# Altium schematic symbol library Howard.SchLib: 217 symbols (part 5 of 5)
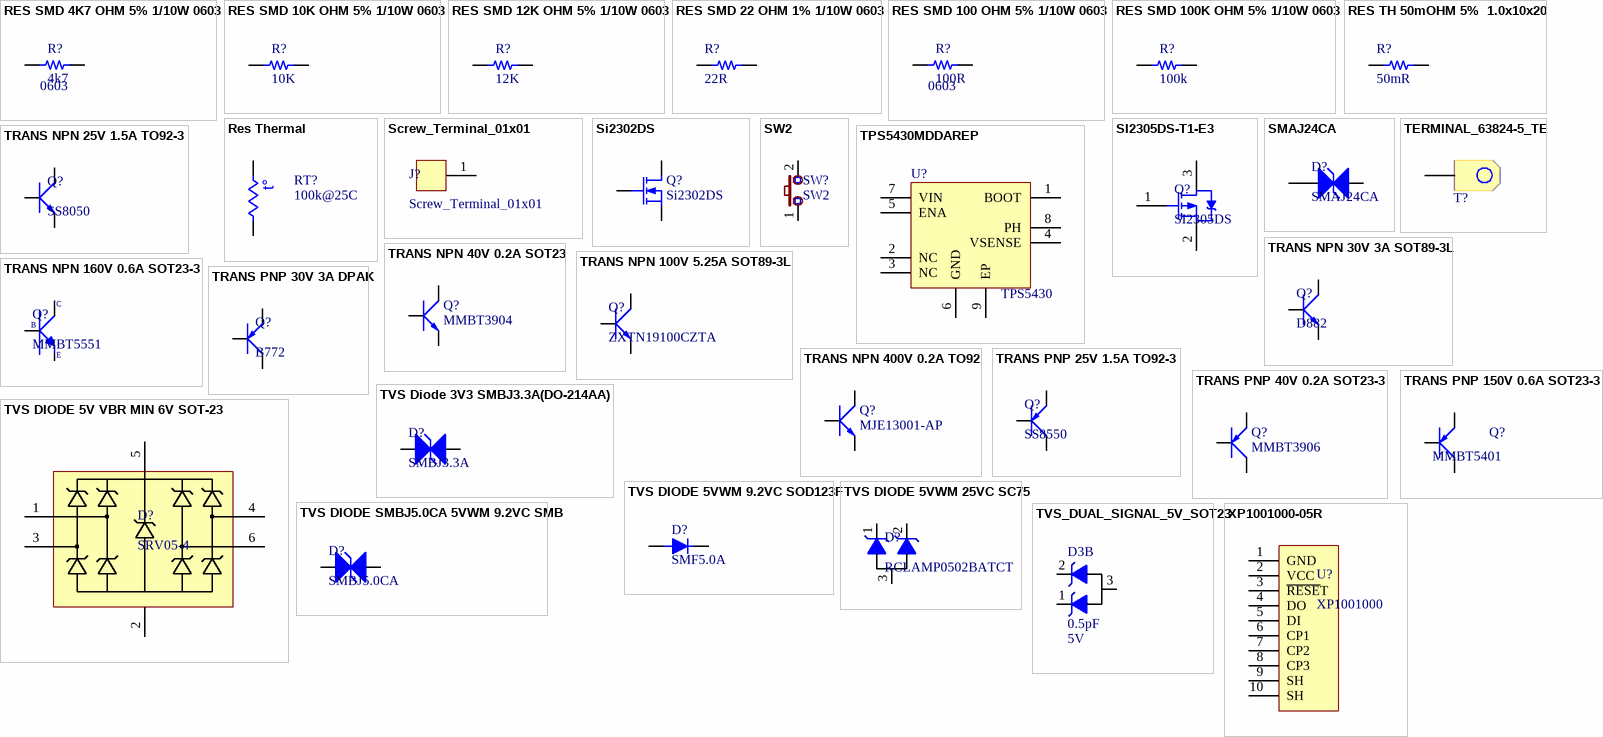
[diagram p11: symbols RES SMD 4K7 OHM 5% 1/10W 0603 to XP1001000-05R]

## TPS5430MDDAREP
designator U?, comment TPS5430
Conv DC-DC Single Step Down 5.5V to 36V 8-Pin HSOP EP; Manufacturer: Texas Instruments; Manufacturer Part Number: TPS5430MDDAREP; Number of Outputs: 1; Output Voltage: 1.22V; Output Current: 3A; Switching Frequency: 500kHz; Synchronous Rectifier: No; Quiescent Current: 3mA; Output Type: Adjustable; Efficiency: 95%; Min Output Voltage: 1.221V; Max Output Voltage: 32.04V; Output Configuration: Positive; Supplier 1: Digi-Key; Stock 1: 0; Pricing 1: 1=11.08, 10=10.007, 25=9.5416, 100=8.2849, 250=7.9126, 500=7.21442, 1000=6.5865 (USD); Mount: Surface Mount; Case/Package: HSOP; Number of Pins: 8; Weight: 0.00249oz; Min Operating Temperature: -55°C; Max Operating Temperature: 125°C; Packaging: Tape and Reel; Package Quantity: 2500; Max Input Voltage: 36V; Min Input Voltage: 5.5V; Max Output Current: 3A; Operating Supply Voltage: 36V; Series: SWIFT™; Radiation Hardening: No; Lead Free: Lead Free; RoHS Compliant: Yes; ComponentLink1URL: https://datasheet.ciiva.com/2035/tps5430-ep-2035616.pdf?src-supplier=Digi-Key; ComponentLink1Description: https://datasheet.ciiva.com/2035/tps5430-ep-2035616.pdf?src-supplier=Digi-Key; ComponentLink2URL: https://datasheet.ciiva.com/4880/slvs911-120920-4880897.pdf?src-supplier=Mouser; ComponentLink2Description: https://datasheet.ciiva.com/4880/slvs911-120920-4880897.pdf?src-supplier=Mouser; ComponentLink3URL: https://datasheet.ciiva.com/2035/tps5430-ep-2035617.pdf?src-supplier=Digi-Key; ComponentLink3Description: https://datasheet.ciiva.com/2035/tps5430-ep-2035617.pdf?src-supplier=Digi-Key; Supplier Part Number 1: 296-24266-6-ND
footprint SOP 8
pins: 1 BOOT, 2 NC, 3 NC, 4 VSENSE, 5 ENA, 6 GND, 7 VIN, 8 PH, 9 EP

## TRANS NPN 25V 1.5A TO92-3
designator Q?, comment SS8050
Transistor, Bjt, NPN, 25V V(br)ceo, 1.5A I(C), TO-92; Manufacturer: ON Semiconductor / Fairchild; Manufacturer Part Number: SS8050CTA; Frequency: 100MHz; Max Power Dissipation: 1W; hFE Min: 85; Collector Base Voltage (VCBO): 40V; Emitter Base Voltage (VEBO): 6V; Collector Emitter Saturation Voltage: 500mV; Number of Elements: 1; Element Configuration: Single; Max Frequency: 1MHz; Supplier 1: Digi-Key; Stock 1: 36979; Pricing 1: 1=0.49, 10=0.394, 100=0.2683, 500=0.20124, 1000=0.15092 (USD); Mount: Through Hole; Case/Package: TO-92-3; Number of Pins: 3; Weight: 0.24g; Contact Plating: Tin,Matte; Min Operating Temperature: -65°C; Max Operating Temperature: 150°C; Package Quantity: 1; Collector Emitter Voltage (VCEO): 25V; Packaging: Ammo Pack; Max Collector Current: 1.5A; Transition Frequency: 100MHz; Collector Emitter Breakdown Voltage: 25V; Max Breakdown Voltage: 25V; Polarity: NPN; Power Dissipation: 1W; Gain Bandwidth Product: 100MHz; Voltage Rating (DC): 25V; Current Rating: 1.5A; Series: -; Collector-emitter Voltage-Max: 500mV; Length: 4.58mm; Width: 3.86mm; Height: 4.58mm; Radiation Hardening: No; Reach SVHC Compliant: Yes; Lead Free: Lead Free; ComponentLink1URL: https://datasheet.ciiva.com/14806/ss8050-14806891.pdf?src-supplier=Arrow+Electronics; ComponentLink1Description: https://datasheet.ciiva.com/14806/ss8050-14806891.pdf?src-supplier=Arrow+Electronics; ComponentLink2URL: https://datasheet.ciiva.com/46415/1869977-46415606.pdf?src-supplier=Element14; ComponentLink2Description: https://datasheet.ciiva.com/46415/1869977-46415606.pdf?src-supplier=Element14; ComponentLink3URL: https://datasheet.ciiva.com/4721/ss8050-117753-4721260.pdf?src-supplier=Mouser; ComponentLink3Description: https://datasheet.ciiva.com/4721/ss8050-117753-4721260.pdf?src-supplier=Mouser; ComponentLink4URL: https://datasheet.ciiva.com/11207/ss8050-11207509.pdf?src-supplier=Avnet; ComponentLink4Description: https://datasheet.ciiva.com/11207/ss8050-11207509.pdf?src-supplier=Avnet; ComponentLink5URL: https://datasheet.ciiva.com/17447/ss8050-17447831.pdf?src-supplier=Future+Electronics; ComponentLink5Description: https://datasheet.ciiva.com/17447/ss8050-17447831.pdf?src-supplier=Future+Electronics; ComponentLink6URL: https://datasheet.ciiva.com/6356/ss8050-6356153.pdf?src-supplier=Digi-Key; ComponentLink6Description: https://datasheet.ciiva.com/6356/ss8050-6356153.pdf?src-supplier=Digi-Key; ComponentLink7URL: https://datasheet.ciiva.com/6356/ss8050-6356150.pdf?src-supplier=Digi-Key; ComponentLink7Description: https://datasheet.ciiva.com/6356/ss8050-6356150.pdf?src-supplier=Digi-Key; Supplier Part Number 1: SS8050CTAFSCT-ND
footprint QTO-92 (TO-92)
pins: 1 E, 2 B, 3 C

## TRANS NPN 30V 3A SOT89-3L
designator Q?, comment D882
Bipolar (BJT) Transistor NPN 30 V 3 A 90MHz 500 mW Surface Mount SOT-89-3L; Manufacturer: MCC; Manufacturer Part Number: 2SD882-GR-BP; Max Collector Current: 3A; Collector Emitter Breakdown Voltage: 30V; Collector-emitter Voltage-Max: 500mV; Max Power Dissipation: 1.25W; Transition Frequency: 50MHz; Supplier 1: Digi-Key; Stock 1: 0; Mount: Through Hole; Case/Package: TO-126-3; Min Operating Temperature: -55°C; Max Operating Temperature: 150°C; Series: -; Packaging: Bulk; ComponentLink1URL: https://media.digikey.com/pdf/Data%20Sheets/Micro%20Commercial%20PDFs/2SD882-x.pdf?src-supplier=Digi-Key; ComponentLink1Description: https://media.digikey.com/pdf/Data%20Sheets/Micro%20Commercial%20PDFs/2SD882-x.pdf?src-supplier=Digi-Key; Supplier Part Number 1: 2SD882-GR-BP-ND
footprint SOT89
pins: 1 B, 2 C, 3 E

## TRANS NPN 40V 0.2A SOT23
designator Q?, comment MMBT3904
Bipolar (BJT) Transistor NPN 40 V 200 mA 300MHz 350 mW Surface Mount SOT-23; Manufacturer: MCC; Manufacturer Part Number: 2SD882-GR-BP; Max Collector Current: 3A; Collector Emitter Breakdown Voltage: 30V; Collector-emitter Voltage-Max: 500mV; Max Power Dissipation: 1.25W; Transition Frequency: 50MHz; Supplier 1: Digi-Key; Stock 1: 0; Mount: Through Hole; Case/Package: TO-126-3; Min Operating Temperature: -55°C; Max Operating Temperature: 150°C; Series: -; Packaging: Bulk; ComponentLink1URL: https://media.digikey.com/pdf/Data%20Sheets/Micro%20Commercial%20PDFs/2SD882-x.pdf?src-supplier=Digi-Key; ComponentLink1Description: https://media.digikey.com/pdf/Data%20Sheets/Micro%20Commercial%20PDFs/2SD882-x.pdf?src-supplier=Digi-Key; Supplier Part Number 1: 2SD882-GR-BP-ND
footprint SOT 23
pins: 1 B, 2 E, 3 C

## TRANS NPN 100V 5.25A SOT89-3L
designator Q?, comment ZXTN19100CZTA
Bipolar (BJT) Transistor NPN 100V 5.25A 90MHz 500 mW Surface Mount SOT-89-3L; Manufacturer: MCC; Manufacturer Part Number: 2SD882-GR-BP; Max Collector Current: 3A; Collector Emitter Breakdown Voltage: 30V; Collector-emitter Voltage-Max: 500mV; Max Power Dissipation: 1.25W; Transition Frequency: 50MHz; Supplier 1: Digi-Key; Stock 1: 0; Mount: Through Hole; Case/Package: TO-126-3; Min Operating Temperature: -55°C; Max Operating Temperature: 150°C; Series: -; Packaging: Bulk; ComponentLink1URL: https://media.digikey.com/pdf/Data%20Sheets/Micro%20Commercial%20PDFs/2SD882-x.pdf?src-supplier=Digi-Key; ComponentLink1Description: https://media.digikey.com/pdf/Data%20Sheets/Micro%20Commercial%20PDFs/2SD882-x.pdf?src-supplier=Digi-Key; Supplier Part Number 1: 2SD882-GR-BP-ND
footprint SOT89
pins: 1 B, 2 C, 3 E

## TRANS NPN 160V 0.6A SOT23-3
designator Q?, comment MMBT5551
Bipolar (BJT) Transistor NPN 160 V 600 mA 100MHz 350 mW Surface Mount SOT-23-3; Manufacturer: ON Semiconductor / Fairchild; Manufacturer Part Number: MMBT3904; Collector Emitter Breakdown Voltage: 40V; Power Dissipation: 350mW; hFE Min: 100; Max Collector Current: 200mA; Transition Frequency: 300MHz; Collector Base Voltage (VCBO): 60V; Emitter Base Voltage (VEBO): 6V; Element Configuration: Single; Number of Elements: 1; Collector Emitter Saturation Voltage: 300mV; Collector-emitter Voltage-Max: 200mV; Mount: Surface Mount; Case/Package: SOT-23; Number of Pins: 3; Weight: 0.03g; Contact Plating: Tin,Matte; Min Operating Temperature: -55°C; Max Operating Temperature: 150°C; Packaging: Tape and Reel; Polarity: NPN; Voltage Rating (DC): 40V; Package Quantity: 1; Collector Emitter Voltage (VCEO): 40V; Max Power Dissipation: 350mW; Max Breakdown Voltage: 40V; Gain Bandwidth Product: 300MHz; Frequency: 300MHz; Max Frequency: 300MHz; Termination: SMD/SMT; Length: 0.25inch; Width: 0.25inch; Height: 0.25inch; Radiation Hardening: No; REACH SVHC: No SVHC; Lead Free: Lead Free; RoHS Compliant: Yes; ComponentLink1URL: http://www.fairchildsemi.com/ds/2N/2N3904.pdf?src-supplier=Element14; ComponentLink1Description: http://www.fairchildsemi.com/ds/2N/2N3904.pdf?src-supplier=Element14; ComponentLink2URL: http://www.farnell.com/datasheets/2150085.pdf?src-supplier=Element14; ComponentLink2Description: http://www.farnell.com/datasheets/2150085.pdf?src-supplier=Element14; ComponentLink3URL: https://www.fairchildsemi.com/datasheets/MM/MMBT3904.pdf?src-supplier=Avnet; ComponentLink3Description: https://www.fairchildsemi.com/datasheets/MM/MMBT3904.pdf?src-supplier=Avnet; ComponentLink4URL: http://www.fairchildsemi.com/ds/MM/MMBT3904.pdf?src-supplier=Future+Electronics; ComponentLink4Description: http://www.fairchildsemi.com/ds/MM/MMBT3904.pdf?src-supplier=Future+Electronics; ComponentLink5URL: http://www.fairchildsemi.com/ds/MM/MMBT3904.pdf?src-supplier=Avnet+Europe; ComponentLink5Description: http://www.fairchildsemi.com/ds/MM/MMBT3904.pdf?src-supplier=Avnet+Europe; ComponentLink6URL: https://www.fairchildsemi.com/package-drawings/MA/MA03B.pdf?src-supplier=Digi-Key; ComponentLink6Description: https://www.fairchildsemi.com/package-drawings/MA/MA03B.pdf?src-supplier=Digi-Key; ComponentLink7URL: https://www.onsemi.com/pub/Collateral/PZT3904-D.pdf?src-supplier=Digi-Key; ComponentLink7Description: https://www.onsemi.com/pub/Collateral/PZT3904-D.pdf?src-supplier=Digi-Key; Current Rating: 200mA; Supplier 1: Digi-Key; Stock 1: 11640; Pricing 1: 1=0.22, 10=0.177, 100=0.0937, 500=0.06162, 1000=0.0419 (USD); Series: -; Reach SVHC Compliant: Yes; ComponentLink8URL: https://datasheet.ciiva.com/976/mmbt5550lt1-d-976512.pdf?src-supplier=Digi-Key; ComponentLink8Description: https://datasheet.ciiva.com/976/mmbt5550lt1-d-976512.pdf?src-supplier=Digi-Key; ComponentLink9URL: https://datasheet.ciiva.com/15139/getdatasheetpartid-92641-15139178.pdf?src-supplier=Verical; ComponentLink9Description: https://datasheet.ciiva.com/15139/getdatasheetpartid-92641-15139178.pdf?src-supplier=Verical; ComponentLink10URL: https://datasheet.ciiva.com/16984/0900766b8078eb1b-16984971.pdf?src-supplier=Allied+Electronics; ComponentLink10Description: https://datasheet.ciiva.com/16984/0900766b8078eb1b-16984971.pdf?src-supplier=Allied+Electronics; ComponentLink11URL: https://datasheet.ciiva.com/34303/2011387-34303825.pdf?src-supplier=Jameco; ComponentLink11Description: https://datasheet.ciiva.com/34303/2011387-34303825.pdf?src-supplier=Jameco; ComponentLink12URL: https://datasheet.ciiva.com/976/mmbt5550lt1-d-976511.pdf?src-supplier=Digi-Key; ComponentLink12Description: https://datasheet.ciiva.com/976/mmbt5550lt1-d-976511.pdf?src-supplier=Digi-Key; ComponentLink13URL: https://datasheet.ciiva.com/976/mmbt5550lt1-d-976513.pdf?src-supplier=Digi-Key; ComponentLink13Description: https://datasheet.ciiva.com/976/mmbt5550lt1-d-976513.pdf?src-supplier=Digi-Key; ComponentLink14URL: https://datasheet.ciiva.com/4722/mmbt5550lt1-d-111393-4722711.pdf?src-supplier=Mouser; ComponentLink14Description: https://datasheet.ciiva.com/4722/mmbt5550lt1-d-111393-4722711.pdf?src-supplier=Mouser; ComponentLink15URL: https://datasheet.ciiva.com/7972/mmbt5550lt1-d-7972073.pdf?src-supplier=Element14; ComponentLink15Description: https://datasheet.ciiva.com/7972/mmbt5550lt1-d-7972073.pdf?src-supplier=Element14; ComponentLink16URL: https://datasheet.ciiva.com/7972/mmbt5550lt1-d-7972075.pdf?src-supplier=Element14; ComponentLink16Description: https://datasheet.ciiva.com/7972/mmbt5550lt1-d-7972075.pdf?src-supplier=Element14; ComponentLink17URL: https://datasheet.ciiva.com/11197/mmbt5550lt1-d-11197404.pdf?src-supplier=Avnet; ComponentLink17Description: https://datasheet.ciiva.com/11197/mmbt5550lt1-d-11197404.pdf?src-supplier=Avnet; ComponentLink18URL: https://datasheet.ciiva.com/16342/mmbt5550lt1-d-16342687.pdf?src-supplier=Future+Electronics; ComponentLink18Description: https://datasheet.ciiva.com/16342/mmbt5550lt1-d-16342687.pdf?src-supplier=Future+Electronics; Supplier Part Number 1: MMBT5551LT1GOSCT-ND
footprint SOT 23
pins: 1 B, 2 E, 3 C

## TRANS NPN 400V 0.2A TO92
designator Q?, comment MJE13001-AP
Bipolar (BJT) Transistor NPN 400 V 200 mA 8MHz 1 W Through Hole TO-92; Manufacturer: MCC; Max Collector Current: 200mA; Collector Emitter Breakdown Voltage: 400V; Collector-emitter Voltage-Max: 500mV; Max Power Dissipation: 1W; Supplier 1: Digi-Key; Manufacturer Part Number: MJE13001-AP; Stock 1: 0; Mount: Through Hole; Case/Package: TO-226-3; Min Operating Temperature: -55°C; Max Operating Temperature: 150°C; Series: -; Packaging: Tape and Reel; Transition Frequency: 8MHz; Supplier Part Number 1: MJE13001-AP-ND
footprint TO-92
pins: 1 E, 2 C, 3 B

## TRANS PNP 25V 1.5A TO92-3
designator Q?, comment SS8550
SS8550 Series PNP 1 W 25 V 1.5 A Through Hole Epitaxial Transistor - TO-92; Manufacturer: ON Semiconductor / Fairchild; Manufacturer Part Number: SS8550CTA; Max Power Dissipation: 1W; Collector Emitter Voltage (VCEO): 25V; hFE Min: 85; Max Collector Current: 1.5A; Collector Base Voltage (VCBO): -40V; Emitter Base Voltage (VEBO): -6V; Element Configuration: Single; Gain Bandwidth Product: 200MHz; Collector-emitter Voltage-Max: 500mV; Collector Emitter Saturation Voltage: -280mV; Number of Elements: 1; Max Frequency: 1MHz; Current Rating: -1.5A; Voltage Rating (DC): -25V; Supplier 1: Digi-Key; Stock 1: 55218; Pricing 1: 1=0.46, 10=0.339, 100=0.1921, 500=0.1272, 1000=0.09752 (USD); Mount: Through Hole; Case/Package: TO-92-3; Number of Pins: 3; Weight: 0.24g; Min Operating Temperature: -65°C; Max Operating Temperature: 150°C; Packaging: Ammo Pack; Polarity: PNP; Series: -; Package Quantity: 2000; Frequency: 200MHz; Transition Frequency: 200MHz; Collector Emitter Breakdown Voltage: 25V; Max Breakdown Voltage: 25V; Power Dissipation: 1W; Length: 5.2mm; Width: 4.19mm; Height: 5.33mm; Radiation Hardening: No; Lead Free: Lead Free; ComponentLink1URL: https://datasheet.ciiva.com/29571/ss8550-29571270.pdf?src-supplier=Digi-Key; ComponentLink1Description: https://datasheet.ciiva.com/29571/ss8550-29571270.pdf?src-supplier=Digi-Key; ComponentLink2URL: https://datasheet.ciiva.com/29571/ss8550-29571269.pdf?src-supplier=Digi-Key; ComponentLink2Description: https://datasheet.ciiva.com/29571/ss8550-29571269.pdf?src-supplier=Digi-Key; Supplier Part Number 1: SS8550CTACT-ND
footprint QTO-92 (TO-92)
pins: 1 E, 2 B, 3 C

## TRANS PNP 30V 3A DPAK
designator Q?, comment B772
Bipolar (BJT) Transistor PNP 30 V 3 A 50MHz 1.25 W Surface Mount D-Pak; Manufacturer: MCC; Manufacturer Part Number: B772-R-TP; Max Collector Current: 3A; Collector Emitter Breakdown Voltage: 30V; Collector-emitter Voltage-Max: 500mV; Max Power Dissipation: 1.25W; Supplier 1: Digi-Key; Stock 1: 0; Mount: Surface Mount; Case/Package: TO-252-3; Min Operating Temperature: -55°C; Max Operating Temperature: 150°C; Series: -; Packaging: Tape and Reel; Transition Frequency: 50MHz; RoHS Compliant: Yes; ComponentLink1URL: https://media.digikey.com/pdf/Data%20Sheets/Micro%20Commercial%20PDFs/B772-x.pdf?src-supplier=Digi-Key; ComponentLink1Description: https://media.digikey.com/pdf/Data%20Sheets/Micro%20Commercial%20PDFs/B772-x.pdf?src-supplier=Digi-Key; Supplier Part Number 1: B772-R-TP-ND
footprint SOT89
pins: 1 B, 2 C, 3 E

## TRANS PNP 40V 0.2A SOT23-3
designator Q?, comment MMBT3906
Bipolar (BJT) Transistor PNP 40 V 200 mA 300MHz 200 mW Surface Mount SOT-23-3; Manufacturer: MCC; Manufacturer Part Number: 2SD882-GR-BP; Max Collector Current: 3A; Collector Emitter Breakdown Voltage: 30V; Collector-emitter Voltage-Max: 500mV; Max Power Dissipation: 1.25W; Transition Frequency: 50MHz; Mount: Through Hole; Case/Package: TO-126-3; Min Operating Temperature: -55°C; Max Operating Temperature: 150°C; Series: -; Packaging: Bulk; ComponentLink1URL: https://media.digikey.com/pdf/Data%20Sheets/Micro%20Commercial%20PDFs/2SD882-x.pdf?src-supplier=Digi-Key; ComponentLink1Description: https://media.digikey.com/pdf/Data%20Sheets/Micro%20Commercial%20PDFs/2SD882-x.pdf?src-supplier=Digi-Key; Value: MMBT3906
footprint SOT 23
pins: 1 B, 2 E, 3 C

## TRANS PNP 150V 0.6A SOT23-3
designator Q?, comment MMBT5401
Bipolar (BJT) Transistor PNP 150 V 600 mA 300MHz 350 mW Surface Mount SOT-23-3; Manufacturer: MCC; Manufacturer Part Number: 2SD882-GR-BP; Value: A1015; Max Collector Current: 3A; Collector Emitter Breakdown Voltage: 30V; Collector-emitter Voltage-Max: 500mV; Max Power Dissipation: 1.25W; Transition Frequency: 50MHz; Mount: Through Hole; Case/Package: TO-126-3; Min Operating Temperature: -55°C; Max Operating Temperature: 150°C; Series: -; Packaging: Bulk; ComponentLink1URL: https://media.digikey.com/pdf/Data%20Sheets/Micro%20Commercial%20PDFs/2SD882-x.pdf?src-supplier=Digi-Key; ComponentLink1Description: https://media.digikey.com/pdf/Data%20Sheets/Micro%20Commercial%20PDFs/2SD882-x.pdf?src-supplier=Digi-Key
footprint SOT 23
pins: 1 B, 2 E, 3 C

## TVS Diode 3V3 SMBJ3.3A(DO-214AA)
designator D?, comment SMBJ3.3A
9.2V Clamp 65.2A Ipp Tvs Diode Surface Mount SMB (DO-214AA); Manufacturer: Littelfuse; Manufacturer Part Number: SMBJ5.0CA; Reverse Standoff Voltage: 5V; Min Breakdown Voltage: 6.4V; Peak Pulse Power: 600W; Polarity: Bidirectional; Max Breakdown Voltage: 7V; Peak Pulse Current: 65.3A; Test Current: 10mA; Max Reverse Leakage Current: 800uA; Element Configuration: Single; Number of Elements: 1; Max Power Dissipation: 5W; Leakage Current: 1.6mA; Diode Type: ZENER; Power Line Protection: No; ESD Protection: Yes; Supplier 1: Digi-Key; Stock 1: 30488; Pricing 1: 1=0.37, 10=0.296, 100=0.2016, 500=0.1512, 1000=0.1134 (USD); Mount: Surface Mount; Case/Package: DO-214AA; Number of Pins: 2; Min Operating Temperature: -65°C; Max Operating Temperature: 150°C; Clamping Voltage: 9.2V; Packaging: Tape and Reel; Direction: Bidirectional; Package Quantity: 3000; Max Surge Current: 65.3A; Breakdown Voltage: 6.4V; Operating Supply Voltage: 5V; Reverse Breakdown Voltage: 6.4V; Number of Channels: 1; Termination: SMD/SMT; Power Dissipation: 600W; Voltage Rating (DC): 5V; Series: SMBJ; Number of Bidirectional Channels: 1; Resistor Type: Zener; Clamping Voltage-Max: 9.2V; Length: 0.179inch; Width: 0.155inch; Height: 0.096inch; Radiation Hardening: No; RoHS Compliant: Yes; Reach SVHC Compliant: Yes; Lead Free: Lead Free; ComponentLink1URL: https://datasheet.ciiva.com/15143/getdatasheetpartid-139415-15143678.pdf?src-supplier=Verical; ComponentLink1Description: https://datasheet.ciiva.com/15143/getdatasheetpartid-139415-15143678.pdf?src-supplier=Verical; ComponentLink2URL: https://datasheet.ciiva.com/25624/0900766b810f4eeb-25624700.pdf?src-supplier=Rs; ComponentLink2Description: https://datasheet.ciiva.com/25624/0900766b810f4eeb-25624700.pdf?src-supplier=Rs; ComponentLink3URL: https://datasheet.ciiva.com/34302/1546953-34302460.pdf?src-supplier=Jameco; ComponentLink3Description: https://datasheet.ciiva.com/34302/1546953-34302460.pdf?src-supplier=Jameco; ComponentLink4URL: https://datasheet.ciiva.com/331/littelfuse-tvs-diode-smbj-datasheet-pdf-331634.pdf?src-supplier=Digi-Key; ComponentLink4Description: https://datasheet.ciiva.com/331/littelfuse-tvs-diode-smbj-datasheet-pdf-331634.pdf?src-supplier=Digi-Key; ComponentLink5URL: https://datasheet.ciiva.com/331/littelfuse-tvs-diode-smbj-datasheet-pdf-331635.pdf?src-supplier=Digi-Key; ComponentLink5Description: https://datasheet.ciiva.com/331/littelfuse-tvs-diode-smbj-datasheet-pdf-331635.pdf?src-supplier=Digi-Key; ComponentLink6URL: https://datasheet.ciiva.com/331/littelfuse-tvs-diode-smbj-datasheet-pdf-331636.pdf?src-supplier=Digi-Key; ComponentLink6Description: https://datasheet.ciiva.com/331/littelfuse-tvs-diode-smbj-datasheet-pdf-331636.pdf?src-supplier=Digi-Key; ComponentLink7URL: https://datasheet.ciiva.com/8062/13057-8062543.pdf?src-supplier=Element14; ComponentLink7Description: https://datasheet.ciiva.com/8062/13057-8062543.pdf?src-supplier=Element14; ComponentLink8URL: https://datasheet.ciiva.com/14535/70184816-14535883.pdf?src-supplier=Allied+Electronics; ComponentLink8Description: https://datasheet.ciiva.com/14535/70184816-14535883.pdf?src-supplier=Allied+Electronics; ComponentLink9URL: https://datasheet.ciiva.com/22696/607623-22696540.pdf?src-supplier=Element14; ComponentLink9Description: https://datasheet.ciiva.com/22696/607623-22696540.pdf?src-supplier=Element14; ComponentLink10URL: https://datasheet.ciiva.com/46381/13057-46381631.pdf?src-supplier=Element14; ComponentLink10Description: https://datasheet.ciiva.com/46381/13057-46381631.pdf?src-supplier=Element14; Supplier Part Number 1: SMBJ5.0CALFDKR-ND
footprint SMBJ (Molded Diode, 2-Leads, Body 5.3x2.8mm, IPC Medium Density)
pins: 1 A, 2 K

## TVS DIODE 5V VBR MIN 6V SOT-23
designator D?, comment SRV05-4
SRV Series 17.5 V 3 pF SMT RailClamp® Low Capacitance TVS Diode Array SOT-23-6; Manufacturer: Semtech; Manufacturer Part Number: SRV05-4.TCT; Reverse Standoff Voltage: 5V; Direction: Unidirectional; Peak Pulse Power: 300W; Leakage Current: 5uA; Peak Pulse Current: 12A; Capacitance: 5pF; Clamping Voltage: 17.5V; Power Line Protection: Yes; Min Breakdown Voltage: 6V; Number of Unidirectional Channels: 4; Number of Elements: 1; Test Current: 1mA; Current: 5A; Supplier 1: Arrow Electronics; RoHS: Yes; Category: TVS Diodes; Stock 1: 2418000; Pricing 1: 3000=0.4528, 6000=0.4312, 9000=0.4036 (USD); Mount: Surface Mount; Case/Package: SOT-23; Number of Pins: 6; Min Operating Temperature: -55°C; Max Operating Temperature: 125°C; Packaging: Tape and Reel; Series: RailClamp®, SR; Working Voltage: 5V; Number of Channels: 4; Polarity: Unidirectional; Max Power Dissipation: 300W; Breakdown Voltage: 6V; Clamping Voltage-Max: 17.5V; Reverse Breakdown Voltage: 6V; Operating Supply Voltage: 5V; ESD Protection: Yes; Max Reverse Leakage Current: 5uA; Max Breakdown Voltage: 6V; Voltage Rating (DC): 5V; Voltage: 5V; Length: 2.9mm; Width: 1.6mm; Height: 1.15mm; Depth: 1.6mm; Radiation Hardening: No; RoHS Compliant: Yes; Lead Free: Lead Free; Reach SVHC Compliant: No; Supplier Part Number 1: SRV05-4.TCT
footprint SOT23-6
pins: 1 CT1, 2 AN, 3 CT2, 4 CT3, 5 CT4, 6 CT5

## TVS DIODE 5VWM 9.2VC SOD123F
designator D?, comment SMF5.0A
SMF Series 200 W 7 V Uni-Directional Surface Mount TVS Diode - SOD-123F; Manufacturer: Littelfuse; Number of Unidirectional Channels: 1; Reverse Standoff Voltage: 5V; Min Breakdown Voltage: 6.4V; Clamping Voltage: 9.2V; Peak Pulse Power: 200W; Power Line Protection: No; Peak Pulse Current: 21.7A; Diode Type: ZENER; Breakdown Voltage: 7V; Polarity: Unidirectional; Leakage Current: 400uA; Test Current: 10mA; Supplier 1: Digi-Key; Manufacturer Part Number: SMF5.0A; Stock 1: 125054; Pricing 1: 1=0.43, 10=0.32, 100=0.1995, 500=0.1365, 1000=0.105 (USD); Mount: Surface Mount; Number of Pins: 2; Min Operating Temperature: -40°C; Max Operating Temperature: 150°C; Packaging: Tape and Reel; Resistor Type: Zener; Series: SMF; Package Quantity: 3000; Number of Channels: 1; Operating Supply Voltage: 5V; Max Surge Current: 21.7A; Termination: SMD/SMT; Max Breakdown Voltage: 7V; Reverse Breakdown Voltage: 6.4V; Number of Elements: 1; Lead Free: Lead Free; ComponentLink1URL: https://datasheet.ciiva.com/6574/littelfuse-tvs-diode-smf-datasheet-pdf-6574026.pdf?src-supplier=Digi-Key; ComponentLink1Description: https://datasheet.ciiva.com/6574/littelfuse-tvs-diode-smf-datasheet-pdf-6574026.pdf?src-supplier=Digi-Key; ComponentLink2URL: https://datasheet.ciiva.com/6574/littelfuse-tvs-diode-smf-datasheet-pdf-6574027.pdf?src-supplier=Digi-Key; ComponentLink2Description: https://datasheet.ciiva.com/6574/littelfuse-tvs-diode-smf-datasheet-pdf-6574027.pdf?src-supplier=Digi-Key; ComponentLink3URL: https://datasheet.ciiva.com/6574/littelfuse-tvs-diode-smf-datasheet-pdf-6574025.pdf?src-supplier=Digi-Key; ComponentLink3Description: https://datasheet.ciiva.com/6574/littelfuse-tvs-diode-smf-datasheet-pdf-6574025.pdf?src-supplier=Digi-Key; Supplier Part Number 1: F5748CT-ND
footprint SOD-123 (SOD123, 2-Leads, Body 2.6x1.6mm, Pitch 3.05mm, IPC High Density)
pins: 1 ANODE, 2 CATHODE

## TVS DIODE 5VWM 25VC SC75
designator D?, comment RCLAMP0502BATCT
ESD Suppressor Diode TVS Uni-Dir/Bi-Dir 5V 3-Pin SOT-523 T/R / TVS DIODE 5VWM 25VC SC75; Manufacturer: Semtech; Supplier 1: Digi-Key; Manufacturer Part Number: RCLAMP0502BATCT; Stock 1: 75554; Pricing 1: 1=0.82, 10=0.726, 100=0.5566, 500=0.44, 1000=0.352 (USD); Supplier Part Number 1: RCLAMP0502BATCTCT-ND
footprint SOT 523
pins: 1 K, 2 K, 3 A

## TVS DIODE SMBJ5.0CA 5VWM 9.2VC SMB
designator D?, comment SMBJ5.0CA
9.2V Clamp 65.2A Ipp Tvs Diode Surface Mount SMB (DO-214AA); Manufacturer: Littelfuse; Reverse Standoff Voltage: 5V; Min Breakdown Voltage: 6.4V; Peak Pulse Power: 600W; Polarity: Bidirectional; Max Breakdown Voltage: 7V; Peak Pulse Current: 65.3A; Test Current: 10mA; Max Reverse Leakage Current: 800uA; Element Configuration: Single; Number of Elements: 1; Max Power Dissipation: 5W; Leakage Current: 1.6mA; Diode Type: ZENER; Power Line Protection: No; ESD Protection: Yes; Supplier 1: Digi-Key; Manufacturer Part Number: SMBJ5.0CA; Stock 1: 30488; Pricing 1: 1=0.37, 10=0.296, 100=0.2016, 500=0.1512, 1000=0.1134 (USD); Mount: Surface Mount; Case/Package: DO-214AA; Number of Pins: 2; Min Operating Temperature: -65°C; Max Operating Temperature: 150°C; Clamping Voltage: 9.2V; Packaging: Tape and Reel; Direction: Bidirectional; Package Quantity: 3000; Max Surge Current: 65.3A; Breakdown Voltage: 6.4V; Operating Supply Voltage: 5V; Reverse Breakdown Voltage: 6.4V; Number of Channels: 1; Termination: SMD/SMT; Power Dissipation: 600W; Voltage Rating (DC): 5V; Series: SMBJ; Number of Bidirectional Channels: 1; Resistor Type: Zener; Clamping Voltage-Max: 9.2V; Length: 0.179inch; Width: 0.155inch; Height: 0.096inch; Radiation Hardening: No; RoHS Compliant: Yes; Reach SVHC Compliant: Yes; Lead Free: Lead Free; ComponentLink1URL: https://datasheet.ciiva.com/15143/getdatasheetpartid-139415-15143678.pdf?src-supplier=Verical; ComponentLink1Description: https://datasheet.ciiva.com/15143/getdatasheetpartid-139415-15143678.pdf?src-supplier=Verical; ComponentLink2URL: https://datasheet.ciiva.com/25624/0900766b810f4eeb-25624700.pdf?src-supplier=Rs; ComponentLink2Description: https://datasheet.ciiva.com/25624/0900766b810f4eeb-25624700.pdf?src-supplier=Rs; ComponentLink3URL: https://datasheet.ciiva.com/34302/1546953-34302460.pdf?src-supplier=Jameco; ComponentLink3Description: https://datasheet.ciiva.com/34302/1546953-34302460.pdf?src-supplier=Jameco; ComponentLink4URL: https://datasheet.ciiva.com/331/littelfuse-tvs-diode-smbj-datasheet-pdf-331634.pdf?src-supplier=Digi-Key; ComponentLink4Description: https://datasheet.ciiva.com/331/littelfuse-tvs-diode-smbj-datasheet-pdf-331634.pdf?src-supplier=Digi-Key; ComponentLink5URL: https://datasheet.ciiva.com/331/littelfuse-tvs-diode-smbj-datasheet-pdf-331635.pdf?src-supplier=Digi-Key; ComponentLink5Description: https://datasheet.ciiva.com/331/littelfuse-tvs-diode-smbj-datasheet-pdf-331635.pdf?src-supplier=Digi-Key; ComponentLink6URL: https://datasheet.ciiva.com/331/littelfuse-tvs-diode-smbj-datasheet-pdf-331636.pdf?src-supplier=Digi-Key; ComponentLink6Description: https://datasheet.ciiva.com/331/littelfuse-tvs-diode-smbj-datasheet-pdf-331636.pdf?src-supplier=Digi-Key; ComponentLink7URL: https://datasheet.ciiva.com/8062/13057-8062543.pdf?src-supplier=Element14; ComponentLink7Description: https://datasheet.ciiva.com/8062/13057-8062543.pdf?src-supplier=Element14; ComponentLink8URL: https://datasheet.ciiva.com/14535/70184816-14535883.pdf?src-supplier=Allied+Electronics; ComponentLink8Description: https://datasheet.ciiva.com/14535/70184816-14535883.pdf?src-supplier=Allied+Electronics; ComponentLink9URL: https://datasheet.ciiva.com/22696/607623-22696540.pdf?src-supplier=Element14; ComponentLink9Description: https://datasheet.ciiva.com/22696/607623-22696540.pdf?src-supplier=Element14; ComponentLink10URL: https://datasheet.ciiva.com/46381/13057-46381631.pdf?src-supplier=Element14; ComponentLink10Description: https://datasheet.ciiva.com/46381/13057-46381631.pdf?src-supplier=Element14; Supplier Part Number 1: SMBJ5.0CALFDKR-ND
footprint SMBJ (Molded Diode, 2-Leads, Body 5.3x2.8mm, IPC Medium Density)
pins: 1 A, 2 K

## TVS_DUAL_SIGNAL_5V_SOT23
designator D3B, comment CAPACITANCE: 0.5pF  VOLTAGE: 5V  (hidden comment: ESDR0502BT1G)
5V, ESD PROTECTION DEVICES, SOT-23; MANUFACTURER2_PART#: DF3D6.8MS,LF; MANUFACTURER1: ON Semiconductor; CURRENT: 1A; POWER: 320W; Category: TVS; MANUFACTURER1_PART#: ESDR0502BT1G; MANUFACTURER2: Toshiba; Value: ESDR0502BT1G; LOH_CODE: *
footprint SOT-416
pins: 1 K, 2 K, 3 A

## XP1001000-05R
designator U?, comment XP1001000
XPort XE Embedded Device Server, ROHS EXTENDED TEMP. -40 TO 85C, WITHOUT ENCRYPTION; Manufacturer: Lantronix; Manufacturer Part Number: XP1001000-05R; Data Rate: 921.6Kbps; Interface: Serial,Ethernet; Number of Ports: 1; Operating Supply Current: 119mA; Operating Supply Voltage: 3.3V; Supplier 1: Digi-Key; Stock 1: 6503; Pricing 1: 1=54.94 (USD); Case/Package: Module; Min Operating Temperature: -40°C; Max Operating Temperature: 85°C; Package Quantity: 200; Series: XPORT; ComponentLink1URL: https://datasheet.ciiva.com/12436/xport-ds-220314-12436050.pdf?src-supplier=Mouser; ComponentLink1Description: https://datasheet.ciiva.com/12436/xport-ds-220314-12436050.pdf?src-supplier=Mouser; Supplier Part Number 1: 1829-1000-ND
footprint XP1001000-05R_LAX
pins: 1 GND, 2 VCC, 3 ~{RESE}T, 4 DO, 5 DI, 6 CP1, 7 CP2, 8 CP3, 9 SH, 10 SH